# EAGLE library part PIC18F2320 (library PIC18F2320)
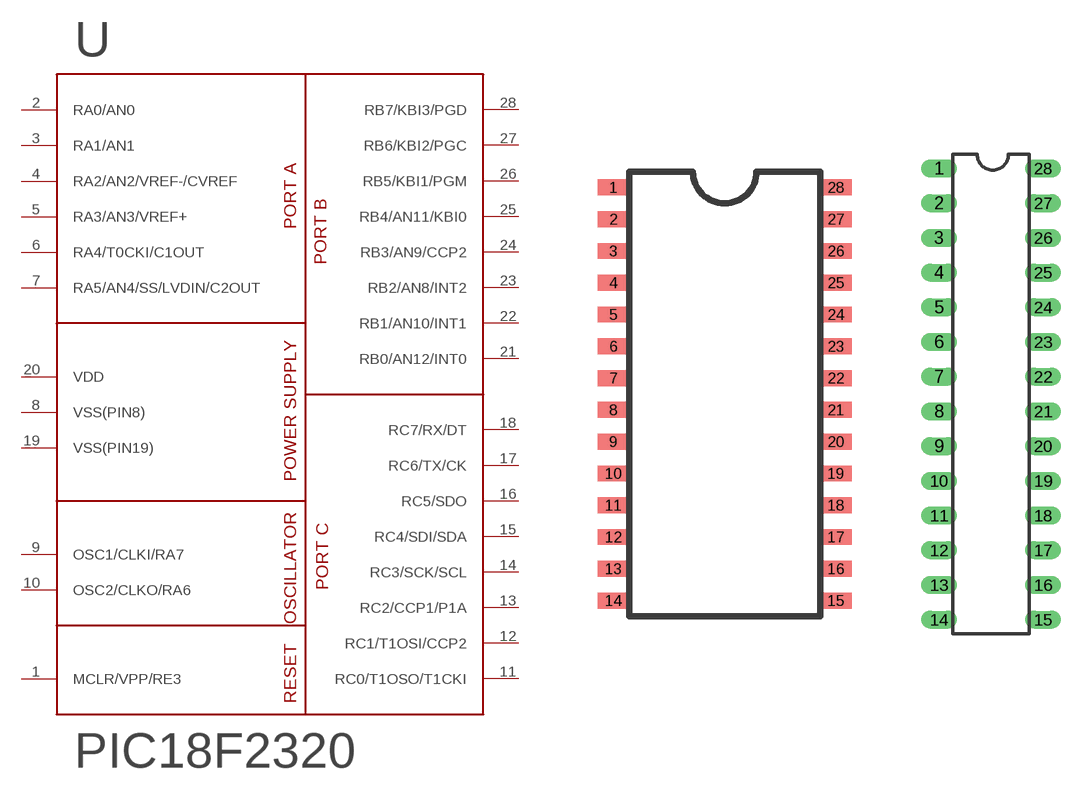
[diagram p0: symbol with the pads of SOIC-28; footprints SOIC-28, SPDIP-28]

Designator prefix -

## PIC18F2320SOIC  [SOIC-28]
1  MCLR/VPP/RE3  in
2  RA0/AN0
3  RA1/AN1
4  RA2/AN2/VREF-/CVREF
5  RA3/AN3/VREF+
6  RA4/T0CKI/C1OUT
7  RA5/AN4/SS/LVDIN/C2OUT
8  VSS(PIN8)  pwr
9  OSC1/CLKI/RA7
10  OSC2/CLKO/RA6
11  RC0/T1OSO/T1CKI
12  RC1/T1OSI/CCP2
13  RC2/CCP1/P1A
14  RC3/SCK/SCL
15  RC4/SDI/SDA
16  RC5/SDO
17  RC6/TX/CK
18  RC7/RX/DT
19  VSS(PIN19)  pwr
20  VDD  pwr
21  RB0/AN12/INT0
22  RB1/AN10/INT1
23  RB2/AN8/INT2
24  RB3/AN9/CCP2
25  RB4/AN11/KBI0
26  RB5/KBI1/PGM
27  RB6/KBI2/PGC
28  RB7/KBI3/PGD

## PIC18F2320SPDIP  [SPDIP-28]
Pads as for SOIC-28

## Footprint SOIC-28 (pad centres in mm)
28-lead Plastic Small Outline Package (SOIC, 300mil) See PIC18F2320 datasheet for more information: http://ww1.microchip.com/downloads/en/DeviceDoc/39599c.pdf Pinout - Page 2, Layout Page 364
smd 1.27 x 0.635: 1 -4.445,8.255; 2 -4.445,6.985; 3 -4.445,5.715; 4 -4.445,4.445; 5 -4.445,3.175; 6 -4.445,1.905; 7 -4.445,0.635; 8 -4.445,-0.635; 9 -4.445,-1.905; 10 -4.445,-3.175; 11 -4.445,-4.445; 12 -4.445,-5.715; 13 -4.445,-6.985; 14 -4.445,-8.255; 15 4.445,-8.255; 16 4.445,-6.985; 17 4.445,-5.715; 18 4.445,-4.445; 19 4.445,-3.175; 20 4.445,-1.905; 21 4.445,-0.635; 22 4.445,0.635; 23 4.445,1.905; 24 4.445,3.175; 25 4.445,4.445; 26 4.445,5.715; 27 4.445,6.985; 28 4.445,8.255

## Footprint SPDIP-28 (pad centres in mm)
28 lead Skinny Plastic DIL Package (SPDIP, 300mil) See PIC18F2320 datasheet for more information: http://ww1.microchip.com/downloads/en/DeviceDoc/39599c.pdf Pinout - Page 2, Layout - Page 363
drill 0.813 long: 1 -3.81,16.51; 2 -3.81,13.97; 3 -3.81,11.43; 4 -3.81,8.89; 5 -3.81,6.35; 6 -3.81,3.81; 7 -3.81,1.27; 8 -3.81,-1.27; 9 -3.81,-3.81; 10 -3.81,-6.35; 11 -3.81,-8.89; 12 -3.81,-11.43; 13 -3.81,-13.97; 14 -3.81,-16.51; 15 3.81,-16.51; 16 3.81,-13.97; 17 3.81,-11.43; 18 3.81,-8.89; 19 3.81,-6.35; 20 3.81,-3.81; 21 3.81,-1.27; 22 3.81,1.27; 23 3.81,3.81; 24 3.81,6.35; 25 3.81,8.89; 26 3.81,11.43; 27 3.81,13.97; 28 3.81,16.51